# Altium footprint library Inductor.PcbLib: 26 footprints (part 2 of 2)
Each footprint in its own frame and in the unit in brackets; x right, y up, seen from the top. Pads: shape width x height; smd on the part's side, far side on the other; paste and mask are expansions set on the pad; w line width, h text height; cw(c..) or ccw(c..) is an arc to the next point about the centre after c.
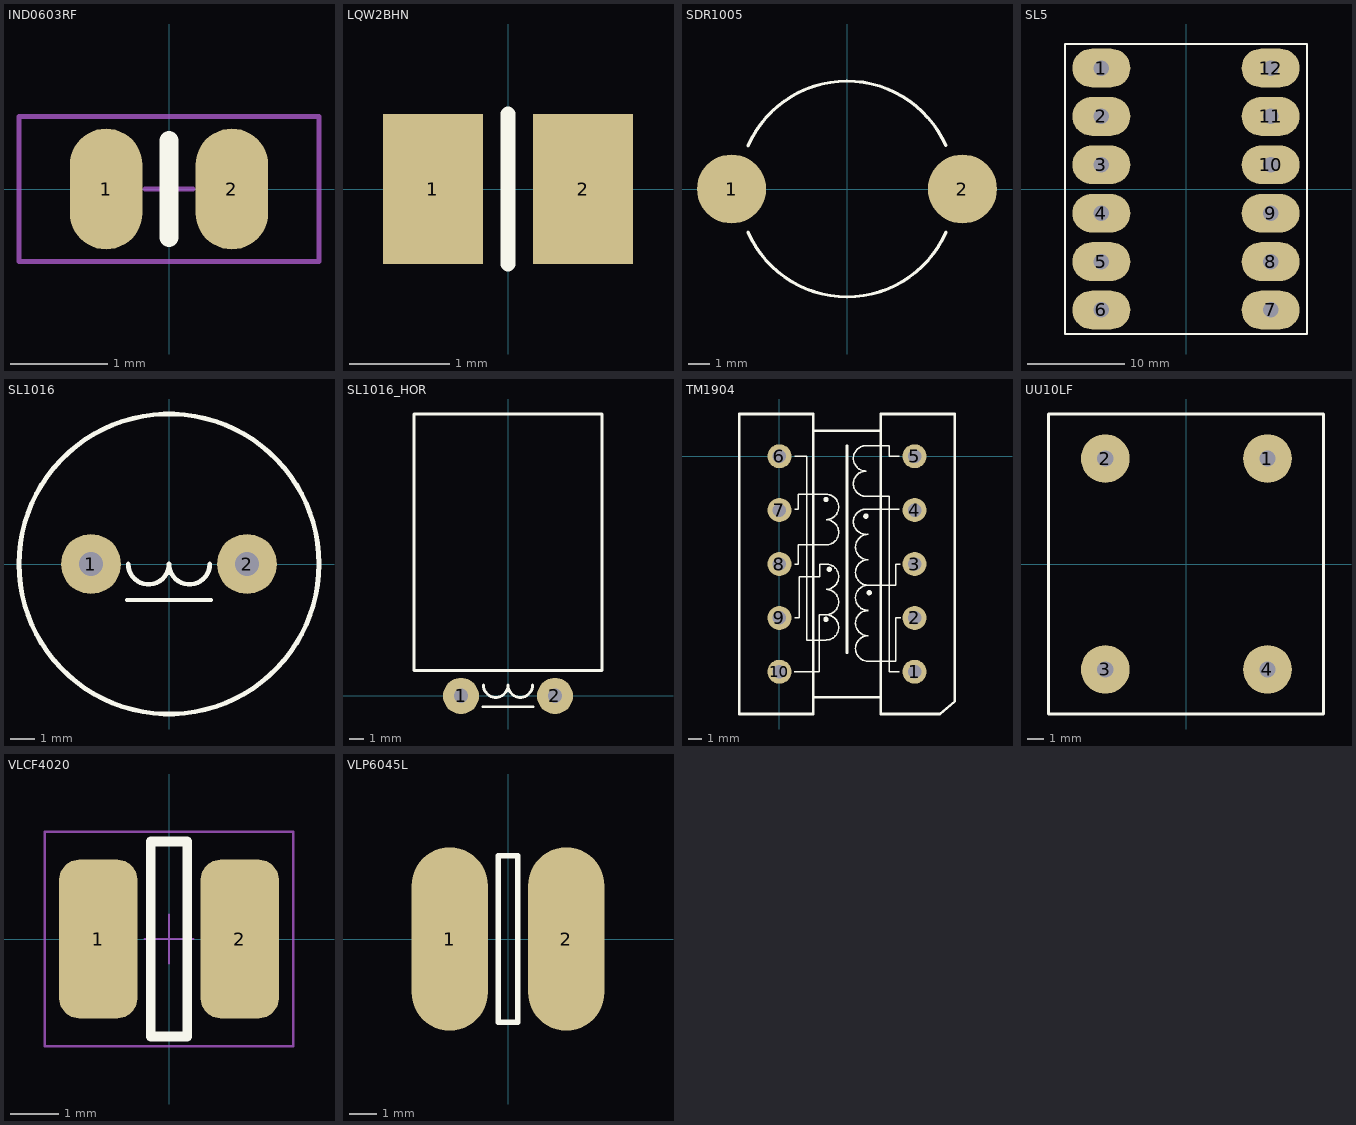
[diagram p1: the footprints below, top view; thin cyan lines are the x and y axes]

## IND0603RF [mm]
pads (2):
  oval 0.75x1.25 smd paste+0 mask+0.1: 1(-0.65,0) 2(0.65,0)
Top Overlay:
  lines w0.2: 0,-0.5 0,0.5
Mechanical 15:
  lines w0.05: -0.25,0 0.25,0 ; 0,-0.25 0,0.25 ; -1.55,-0.75 -1.55,0.75 1.55,0.75 1.55,-0.75 -1.55,-0.75
3D body "0603_IND.STEP": height 1.04, standoff 0.02, extent -0.9,-0.56 0.9,0.56

## LQW2BHN [mm]
pads (2):
  rect 1x1.5 smd: 1(-0.75,0) 2(0.75,0)
Top Overlay:
  lines w0.15: 0,-0.75 0,0.75
3D body "LQW2BHN.STEP": height 1.71, standoff 0.01, extent -1.05,-0.75 1.05,0.75

## SDR1005 [mm]
pads (2):
  round 3.2 smd mask+0.1: 1(-5.35,0) 2(5.35,0)
Top Overlay:
  lines w0.15: -4.585,-1.994 ccw(c0,0) 4.585,-1.994 ; -4.585,1.994 cw(c0,0) 4.577,2.012
3D body "SDR1005.STEP": height 5.02, standoff 0.02, extent -6.35,-5 6.35,5

## SL5 [mm]
pads (12):
  oval 6x4 hole 1.6: 1(-8.75,12.5) 2(-8.75,7.5) 3(-8.75,2.5) 4(-8.75,-2.5) 5(-8.75,-7.5) 6(-8.75,-12.5) 7(8.75,-12.5) 8(8.75,-7.5) 9(8.75,-2.5) 10(8.75,2.5) 11(8.75,7.5) 12(8.75,12.5)
Top Overlay:
  lines w0.2: -12.5,-15 12.5,-15 12.5,15 -12.5,15 -12.5,-15

## SL1016 [mm]
pads (2):
  round 2.5 hole 1: 1(-3.25,0) 2(3.25,0)
Top Overlay:
  circle w0.2: c0,0 r6.25
  lines w0.15: -1.75,-1.5 1.75,-1.5
  lines w0.2: -1.7,0 ccw(c-0.85,0) 0,0 ccw(c0.85,0) 1.7,0
3D body "SL1016.STEP": height 20, standoff -3, extent -6.5,-6.5 6.5,6.5

## SL1016_HOR [mm]
pads (2):
  round 2.5 hole 1 unplated: 1(-3.25,0) 2(3.25,0)
Top Overlay:
  lines w0.15: -1.75,-0.75 1.75,-0.75
  lines w0.2: -1.7,0.75 ccw(c-0.85,0.75) 0,0.75 ccw(c0.85,0.75) 1.7,0.75 ; -6.5,1.75 6.5,1.75 6.5,19.5 -6.5,19.5 -6.5,1.75
3D body "SL1016.STEP": height 13.5, standoff -4, extent -6.5,-0.4 6.5,19.5

## TM1904 [mm]
pads (10):
  round 1.8 hole 1 mask-0.036: 1(10.16,-16.192) 2(10.16,-12.144) 3(10.16,-8.096) 4(10.16,-4.048) 5(10.16,0) 6(0,0) 7(0,-4.048) 8(0,-8.096) 9(0,-12.144) 10(0,-16.192)
Top Overlay:
  drawing of 636 lines, arcs and shapes, not listed

## UU10LF [mm]
pads (4):
  round 3 hole 1: 1(5,6.5) 2(-5,6.5) 3(-5,-6.5) 4(5,-6.5)
Top Overlay:
  lines w0.2: -8.5,-9.25 -8.5,9.25 8.45,9.25 8.45,-9.25 -8.5,-9.25
3D body "UU10LF.STEP": height 25.56, standoff -3.79, extent -9.35,-11.117 9.35,11.118

## VLCF4020 [mm] "Coilcraft"
pads (2):
  rrect50% 1.6x3.25 smd mask+0.1: 1(-1.45,0) 2(1.45,0)
Top Overlay:
  lines w0.2: -0.375,-2 0.375,-2 0.375,2 -0.375,2 -0.375,-2
Mechanical 15:
  lines w0.05: -0.5,0 0.5,0 ; 0,-0.5 0,0.5 ; -2.55,-2.2 -2.55,2.2 2.55,2.2 2.55,-2.2 -2.55,-2.2
3D body "VLCF4020.STEP": height 2.02, standoff 0.02, extent -2,-2 2,2

## VLP6045L [mm]
pads (2):
  oval 2.75x6.6 smd: 1(-2.1,0) 2(2.1,0)
Top Overlay:
  lines w0.2: -0.35,-3 0.35,-3 0.35,3 -0.35,3 -0.35,-3
3D body "VLP6045L.STEP": height 4.51, standoff 0.01, extent -3,-3 3,3